# EAGLE library part MAX9010EXT+ (library MAX9010EXT+)
SC70, 5ns, Low-Power, Single-Supply, Precision TTL Comparators Source: Datasheet <https://www.analog.com/MAX9010/datasheet?ADICID=SYND_WW_P682800_PF-spglobal>
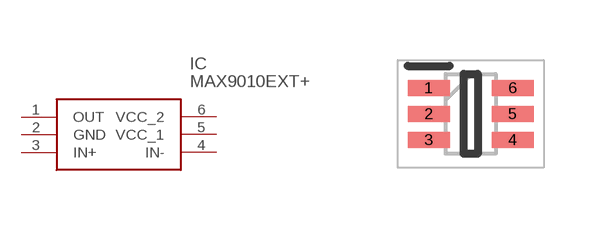
[diagram p0: symbol with the pads of SOT65P210X110-6N; footprint SOT65P210X110-6N]

Designator prefix IC

## MAX9010EXT+ (Description: SC70, 5ns, Low-Power, Single-Supply, Precision TTL Comparators; Height: 1.1mm; Manufacturer_Name: Analog Devices; Manufacturer_Part_Number: MAX9010EXT+)  [SOT65P210X110-6N]
1  OUT
2  GND
3  IN+
4  IN-
5  VCC_1
6  VCC_2

## Footprint SOT65P210X110-6N (pad centres in mm)
6 SC70-6
smd 1.05 x 0.4: 1 -1.05,0.65; 2 -1.05,0; 3 -1.05,-0.65; 4 1.05,-0.65; 5 1.05,0; 6 1.05,0.65